# Altium footprint library SOIC_127P_M.PcbLib: 49 footprints (part 4 of 4)
Each footprint in its own frame and in the unit in brackets; x right, y up, seen from the top. Pads: shape width x height; smd on the part's side, far side on the other; paste and mask are expansions set on the pad; w line width, h text height; cw(c..) or ccw(c..) is an arc to the next point about the centre after c.
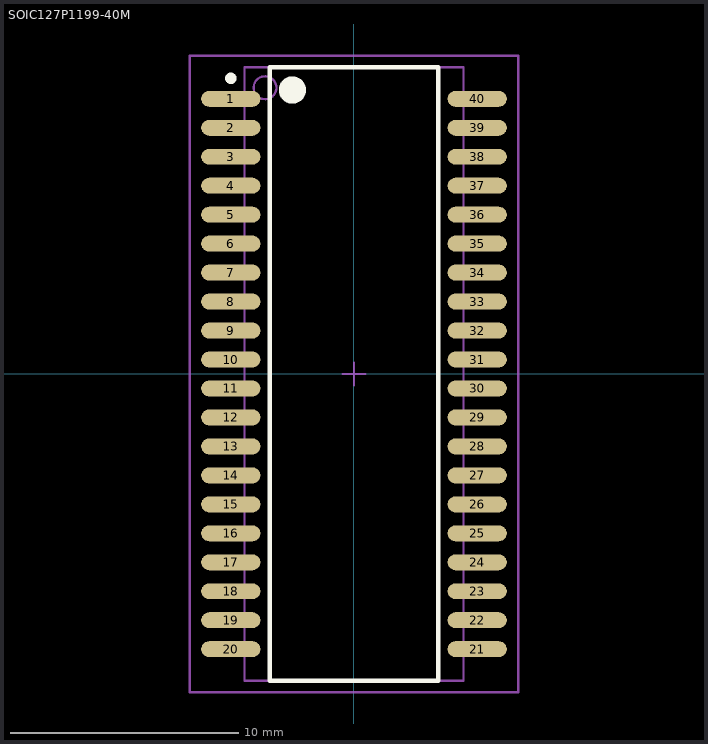
[diagram p3: the footprint, top view; thin cyan lines are the x and y axes]

## SOIC127P1199-40M [mm] "SOIC, 40-Leads, Body 26.6x9.4mm, Pitch 1.27mm, IPC Low Density"
height 2.7
pads (40):
  oval 2.6x0.7 smd: 1(-5.4,12.065) 2(-5.4,10.795) 3(-5.4,9.525) 4(-5.4,8.255) 5(-5.4,6.985) 6(-5.4,5.715) 7(-5.4,4.445) 8(-5.4,3.175) 9(-5.4,1.905) 10(-5.4,0.635) 11(-5.4,-0.635) 12(-5.4,-1.905) 13(-5.4,-3.175) 14(-5.4,-4.445) 15(-5.4,-5.715) 16(-5.4,-6.985) 17(-5.4,-8.255) 18(-5.4,-9.525) 19(-5.4,-10.795) 20(-5.4,-12.065) 21(5.4,-12.065) 22(5.4,-10.795) 23(5.4,-9.525) 24(5.4,-8.255) 25(5.4,-6.985) 26(5.4,-5.715) 27(5.4,-4.445) 28(5.4,-3.175) 29(5.4,-1.905) 30(5.4,-0.635) 31(5.4,0.635) 32(5.4,1.905) 33(5.4,3.175) 34(5.4,4.445) 35(5.4,5.715) 36(5.4,6.985) 37(5.4,8.255) 38(5.4,9.525) 39(5.4,10.795) 40(5.4,12.065)
Top Overlay:
  circle w0.25: c-5.4,12.965 r0.125
  circle w0.6: c-2.7,12.45 r0.3
  lines w0.2: -3.7,-13.45 -3.7,13.45 3.7,13.45 3.7,-13.45 -3.7,-13.45
Mechanical 13:
  circle w0.1: c-3.9,12.55 r0.5
  lines w0.1: -4.8,-13.45 -4.8,13.45 4.8,13.45 4.8,-13.45 -4.8,-13.45
Mechanical 15:
  lines w0.1: -0.5,0 0.5,0 ; 0,-0.5 0,0.5 ; -7.2,-13.95 -7.2,13.95 7.2,13.95 7.2,-13.95 -7.2,-13.95
3D body: height 2.7, standoff 0, extent -4.8,-13.45 4.8,13.45